# Altium schematic symbol library DM3CS-SF.SchLib: 1 symbol
Pins are listed as number, name and electrical type; pins without a type are passive.

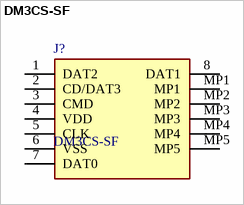
[diagram p0: symbol DM3CS-SF]

## DM3CS-SF
designator J?
Memory Card Connectors 8P R/A SMT MICRO SD HINGE PUSH-PULL; Manufacturer_Name: Hirose; Geometry.Height: 1.83mm; Mouser Part Number: 798-DM3CSSF; Mouser Price/Stock: https://www.mouser.co.uk/ProductDetail/Hirose-Connector/DM3CS-SF?qs=tTj%252BmQ3KZwbB9K5zh89Rcw%3D%3D; Manufacturer_Part_Number: DM3CS-SF; Datasheet Link: https://datasheet.lcsc.com/szlcsc/Hirose-HRS-DM3CS-SF_C202111.pdf
footprint DM3CSSF
pins: 1 DAT2, 2 CD/DAT3, 3 CMD, 4 VDD, 5 CLK, 6 VSS, 7 DAT0, 8 DAT1, MP1, MP2, MP3, MP4, MP5